# Altium schematic symbol library Amplifier_Operational.SchLib: 354 symbols (part 1 of 4)
Pins are listed as number, name and electrical type; pins without a type are passive.

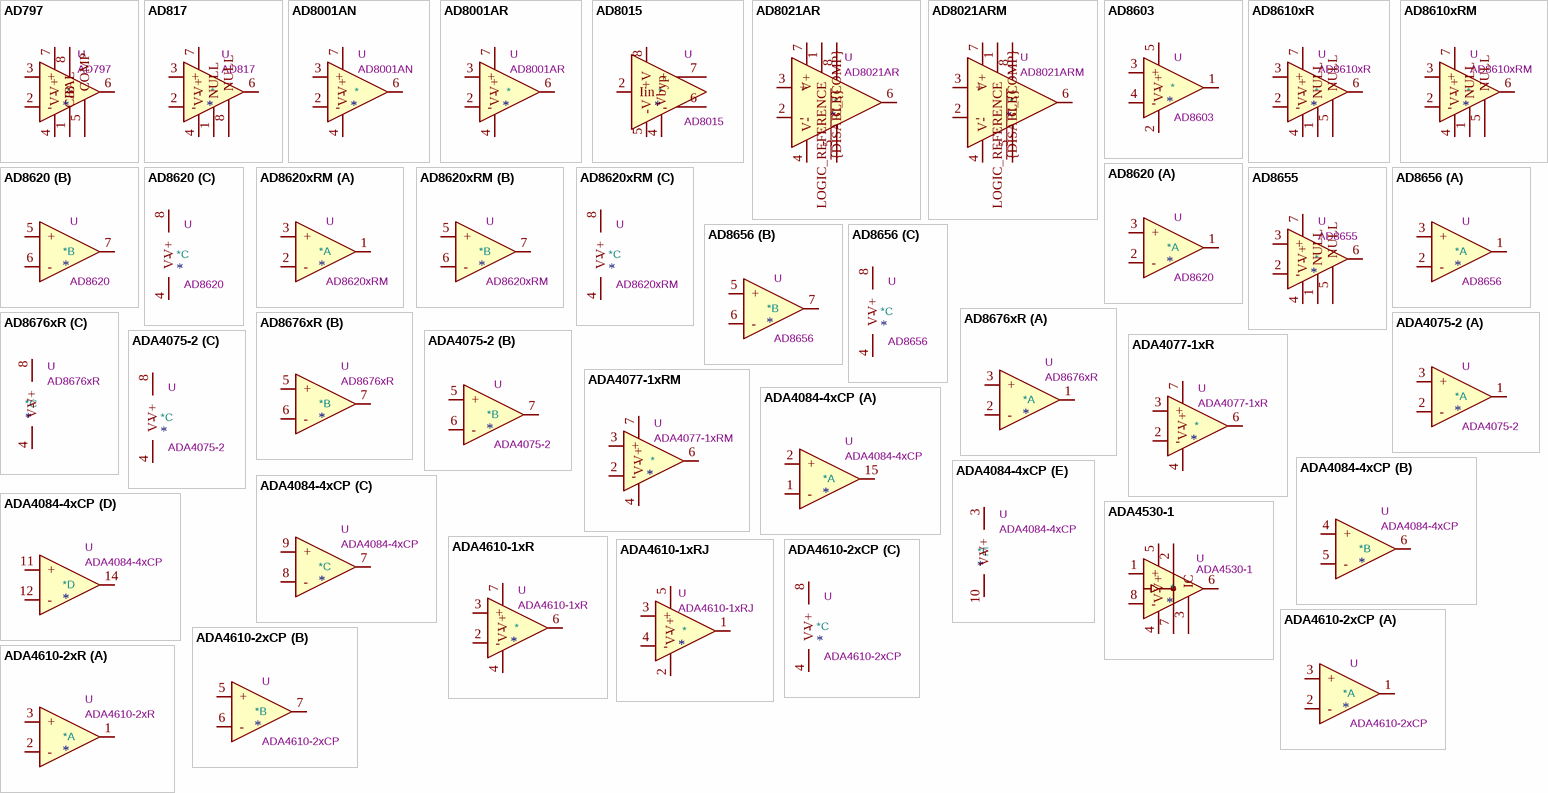
[diagram p0: symbols AD797 to ADA4610-2xR]

## AD797
designator *  value AD797  Reference: U
ki_keywords: single opamp; ki_description: Ultralow Distortion, Ultralow Noise Op Amp, DIP-8/SOIC-8; ki_fp_filters: DIP*W7.62mm* SOIC*3.9x4.9mm*P1.27mm* TO?5*; Datasheet: https://www.analog.com/media/en/technical-documentation/data-sheets/AD797.pdf
pins: 1 BAL, 2 -, 3 +, 4 V-, 5 COMP, 6, 7 V+, 8 C/B

## AD817
designator *  value AD817  Reference: U
ki_keywords: single opamp; ki_description: High Speed, Low Power Wide Supply Range Operational Amplifier, DIP-8/SOIC-8; ki_fp_filters: DIP?8?W7.62mm* SO?8?3.9x4.9mm*P1.27mm*; Datasheet: https://www.analog.com/media/en/technical-documentation/data-sheets/ad817.pdf
pins: 1 NULL, 2 -, 3 +, 4 V-, 5 NC hidden, 6, 7 V+, 8 NULL

## AD8001AN
designator *  value AD8001AN  Reference: U
ki_keywords: single opamp; ki_description: Current Feedback Amplifier, 800 MHz, 50mW, DIP-8; ki_fp_filters: DIP*W7.62mm*; Footprint: Package_DIP:DIP-8_W7.62mm; Datasheet: https://www.analog.com/media/en/technical-documentation/data-sheets/ad8001.pdf
pins: 1 NC hidden, 2 -, 3 +, 4 V-, 5 NC hidden, 6, 7 V+, 8 NC hidden

## AD8001AR
designator *  value AD8001AR  Reference: U
ki_keywords: single opamp; ki_description: Current Feedback Amplifier, 800 MHz, 50mW, SOIC-8; ki_fp_filters: SOIC*3.9x4.9mm*P1.27mm*; Footprint: Package_SO:SOIC-8_3.9x4.9mm_P1.27mm; Datasheet: https://www.analog.com/media/en/technical-documentation/data-sheets/ad8001.pdf
pins: 1 NC hidden, 2 -, 3 +, 4 V-, 5 NC hidden, 6, 7 V+, 8 NC hidden

## AD8015
designator *  value AD8015  Reference: U
ki_keywords: amplifier transimpedance differential optical receiver; ki_description: Wideband/Differential Output Transimpedance Amplifier, SOIC-8; ki_fp_filters: SOIC*3.9x4.9mm*P1.27mm*; Footprint: Package_SO:SOIC-8_3.9x4.9mm_P1.27mm; Datasheet: https://www.analog.com/media/en/technical-documentation/data-sheets/AD8015.pdf
pins: 1 NC hidden, 2 Iin, 3 NC hidden, 4 Vbyp, 5 -V, 6 -, 7 +, 8 +V

## AD8021AR
designator *  value AD8021AR  Reference: U
ki_keywords: Opamp; ki_description: Operational Amplifier, 4.5-24V single/dual supply, low noise, high speed, SOIC-8; ki_fp_filters: SOIC*3.9x4.9mm*P1.27mm*; Footprint: Package_SO:SOIC-8_3.9x4.9mm_P1.27mm; Datasheet: https://www.analog.com/media/en/technical-documentation/data-sheets/AD8021.pdf
pins: 1 LOGIC_REFERENCE, 2 -, 3 +, 4 V-, 5 C_{COMP}, 6, 7 V+, 8 ~{{DISABLE}}

## AD8021ARM
designator *  value AD8021ARM  Reference: U
ki_keywords: Opamp; ki_description: Operational Amplifier, 4.5-24V single/dual supply, low noise, high speed, MSOP-8; ki_fp_filters: MSOP*3x3mm*P0.65mm*; Footprint: Package_SO:MSOP-8_3x3mm_P0.65mm; Datasheet: https://www.analog.com/media/en/technical-documentation/data-sheets/AD8021.pdf
pins: 1 LOGIC_REFERENCE, 2 -, 3 +, 4 V-, 5 C_{COMP}, 6, 7 V+, 8 ~{{DISABLE}}

## AD8603
designator *  value AD8603  Reference: U
ki_keywords: single opamp; ki_description: Precision Micropower, Low Noise CMOS, Rail-to-Rail Input/Output Operational Amplifier, TSOT-23-5; ki_fp_filters: TSOT*23*; Footprint: Package_TO_SOT_SMD:TSOT-23-5; Datasheet: https://www.analog.com/media/en/technical-documentation/data-sheets/AD8603_8607_8609.pdf
pins: 1, 2 V-, 3 +, 4 -, 5 V+

## AD8610xR
designator *  value AD8610xR  Reference: U
ki_keywords: single opamp; ki_description: Single Precision, Very Low Noise, Low Input Bias Current, Wide Bandwidth JFET Operational Amplifiers, SOIC-8; ki_fp_filters: SOIC*3.9x4.9mm*P1.27mm*; Footprint: Package_SO:SOIC-8_3.9x4.9mm_P1.27mm; Datasheet: https://www.analog.com/media/en/technical-documentation/data-sheets/AD8610_8620.pdf
pins: 1 NULL, 2 -, 3 +, 4 V-, 5 NULL, 6, 7 V+, 8 NC hidden

## AD8610xRM
designator *  value AD8610xRM  Reference: U
ki_keywords: single opamp; ki_description: Single Precision, Very Low Noise, Low Input Bias Current, Wide Bandwidth JFET Operational Amplifiers, MSOP-8; ki_fp_filters: MSOP*3x3mm*P0.65mm*; Footprint: Package_SO:MSOP-8_3x3mm_P0.65mm; Datasheet: https://www.analog.com/media/en/technical-documentation/data-sheets/AD8610_8620.pdf
pins: 1 NULL, 2 -, 3 +, 4 V-, 5 NULL, 6, 7 V+, 8 NC hidden

## AD8620
designator *  value AD8620  Reference: U
ki_keywords: dual opamp; ki_description: Dual Precision, Very Low Noise, Low Input Bias Current, Wide Bandwidth JFET Operational Amplifiers, SOIC-8; ki_fp_filters: SOIC*3.9x4.9mm*P1.27mm*; Footprint: Package_SO:SOIC-8_3.9x4.9mm_P1.27mm; Datasheet: https://www.analog.com/media/en/technical-documentation/data-sheets/AD8610_8620.pdf
part A pins: 1, 2 -, 3 +
part B pins: 5 +, 6 -, 7
part C pins: 4 V-, 8 V+

## AD8620xRM
designator *  value AD8620xRM  Reference: U
ki_keywords: dual opamp; ki_description: Dual Precision, Very Low Noise, Low Input Bias Current, Wide Bandwidth JFET Operational Amplifiers, MSOP-8; ki_fp_filters: MSOP*3x3mm*P0.65mm*; Footprint: Package_SO:MSOP-8_3x3mm_P0.65mm; Datasheet: https://www.analog.com/media/en/technical-documentation/data-sheets/AD8610_8620.pdf
part A pins: 1, 2 -, 3 +
part B pins: 5 +, 6 -, 7
part C pins: 4 V-, 8 V+

## AD8655
designator *  value AD8655  Reference: U
ki_keywords: single opamp; ki_description: Single Low Noise, Precision CMOS Amplifier; ki_fp_filters: SOIC*3.9x4.9mm*P1.27mm* MSOP*3x3mm*P0.65mm*; Datasheet: https://www.analog.com/media/en/technical-documentation/data-sheets/ad8655_8656.pdf
pins: 1 NULL, 2 -, 3 +, 4 V-, 5 NULL, 6, 7 V+, 8 NC hidden

## AD8656
designator *  value AD8656  Reference: U
ki_keywords: dual opamp; ki_description: Dual Low Noise, Precision CMOS Amplifier; ki_fp_filters: SOIC*3.9x4.9mm*P1.27mm* MSOP*3x3mm*P0.65mm*; Datasheet: https://www.analog.com/media/en/technical-documentation/data-sheets/ad8655_8656.pdf
part A pins: 1, 2 -, 3 +
part B pins: 5 +, 6 -, 7
part C pins: 4 V-, 8 V+

## AD8676xR
designator *  value AD8676xR  Reference: U
ki_keywords: dual opamp precision high-voltage RRO RTR; ki_description: Dual operational amplifier, Ultra-precision, 36V, Rail-to-rail output, SOIC-8; ki_fp_filters: SOIC*3.9x4.9mm*P1.27mm*; Footprint: Package_SO:SOIC-8_3.9x4.9mm_P1.27mm; Datasheet: https://www.analog.com/media/en/technical-documentation/data-sheets/AD8676.pdf
part A pins: 1, 2 -, 3 +
part B pins: 5 +, 6 -, 7
part C pins: 4 V-, 8 V+

## ADA4075-2
designator *  value ADA4075-2  Reference: U
ki_keywords: dual low-power opamp; ki_description: Ultralow Noise Amplifier at Lower Power, SOIC-8/LFCSP-8; ki_fp_filters: SOIC*3.9x4.9mm*P1.27mm* DIP*W7.62mm* TO*99* OnSemi*Micro8* TSSOP*3x3mm*P0.65mm* TSSOP*4.4x3mm*P0.65mm* MSOP*3x3mm*P0.65mm* SSOP*3.9x4.9mm*P0.635mm* LFCSP*2x2mm*P0.5mm* *SIP* SOIC*5.3x6.2mm*P1.27mm*; Datasheet: https://www.analog.com/static/imported-files/data_sheets/ADA4075-2.pdf
part A pins: 1, 2 -, 3 +
part B pins: 5 +, 6 -, 7
part C pins: 4 V-, 8 V+

## ADA4077-1xR
designator *  value ADA4077-1xR  Reference: U
ki_keywords: single opamp; ki_description: 4MHz, 7nV/sqrtHz, Low Offset and Drift, High Precision Amplifier, SOIC-8; ki_fp_filters: SOIC*3.9x4.9mm*P1.27mm*; Footprint: Package_SO:SOIC-8_3.9x4.9mm_P1.27mm; Datasheet: https://www.analog.com/media/en/technical-documentation/data-sheets/ADA4077-1_4077-2_4077-4.pdf
pins: 1 NC hidden, 2 -, 3 +, 4 V-, 5 NC hidden, 6, 7 V+, 8 NC hidden

## ADA4077-1xRM
designator *  value ADA4077-1xRM  Reference: U
ki_keywords: single opamp; ki_description: 4MHz, 7nV/sqrtHz, Low Offset and Drift, High Precision Amplifier, MSOP-8; ki_fp_filters: MSOP*3x3mm*P0.65mm*; Footprint: Package_SO:MSOP-8_3x3mm_P0.65mm; Datasheet: https://www.analog.com/media/en/technical-documentation/data-sheets/ADA4077-1_4077-2_4077-4.pdf
pins: 1 NC hidden, 2 -, 3 +, 4 V-, 5 NC hidden, 6, 7 V+, 8 NC hidden

## ADA4084-4xCP
designator *  value ADA4084-4xCP  Reference: U
ki_keywords: quad opamp; ki_description: 30V Quad Low Noise, Rail-to-Rail Input/Output, Low Power Operational Amplifier, LFCSP-16; ki_fp_filters: LFCSP*4x4mm*P0.65mm*EP2.6x2.6mm*; Footprint: Package_CSP:LFCSP-16-1EP_4x4mm_P0.65mm_EP2.6x2.6mm; Datasheet: https://www.analog.com/media/en/technical-documentation/data-sheets/ADA4084-1_4084-2_4084-4.pdf
part A pins: 1 -, 2 +, 13 NIC hidden, 15, 16 NIC hidden
part B pins: 4 +, 5 -, 6
part C pins: 7, 8 -, 9 +
part D pins: 11 +, 12 -, 14
part E pins: 3 V+, 10 V-, 17 V- hidden

## ADA4530-1
designator *  value ADA4530-1  Reference: U
ki_keywords: single opamp; ki_description: Femtoampere Input Bias Current Electrometer Amplifier, SOIC-8; ki_fp_filters: SOIC*3.9x4.9mm*P1.27mm*; Footprint: Package_SO:SOIC-8_3.9x4.9mm_P1.27mm; Datasheet: https://www.analog.com/media/en/technical-documentation/data-sheets/ADA4530-1.pdf
pins: 1 +, 2, 3 IC, 4 V-, 5 V+, 6, 7, 8 -

## ADA4610-1xR
designator *  value ADA4610-1xR  Reference: U
ki_keywords: single opamp; ki_description: Low Noise, Precision, Rail-to-Rail Output, JFET Single Op Amp, SOIC-8; ki_fp_filters: SOIC*3.9x4.9mm*P1.27mm*; Footprint: Package_SO:SOIC-8_3.9x4.9mm_P1.27mm; Datasheet: https://www.analog.com/media/en/technical-documentation/data-sheets/ADA4610-1_4610-2_4610-4.pdf
pins: 1 NC hidden, 2 -, 3 +, 4 V-, 5 NC hidden, 6, 7 V+, 8 NC hidden

## ADA4610-1xRJ
designator *  value ADA4610-1xRJ  Reference: U
ki_keywords: single opamp; ki_description: Low Noise, Precision, Rail-to-Rail Output, JFET Single Op Amp, SOT-23-5; ki_fp_filters: SOT?23*; Footprint: Package_TO_SOT_SMD:SOT-23-5; Datasheet: https://www.analog.com/media/en/technical-documentation/data-sheets/ADA4610-1_4610-2_4610-4.pdf
pins: 1, 2 V-, 3 +, 4 -, 5 V+

## ADA4610-2xCP
designator *  value ADA4610-2xCP  Reference: U
ki_keywords: dual opamp; ki_description: Dual Low Noise, Precision, Rail-to-Rail Output, JFET Op Amp, LFCSP-8; ki_fp_filters: LFCSP*1EP*3x3mm*P0.5mm*; Footprint: Package_CSP:LFCSP-8-1EP_3x3mm_P0.5mm_EP1.6x2.34mm; Datasheet: https://www.analog.com/media/en/technical-documentation/data-sheets/ADA4610-1_4610-2_4610-4.pdf
part A pins: 1, 2 -, 3 +
part B pins: 5 +, 6 -, 7
part C pins: 4 V-, 8 V+, 9 V- hidden

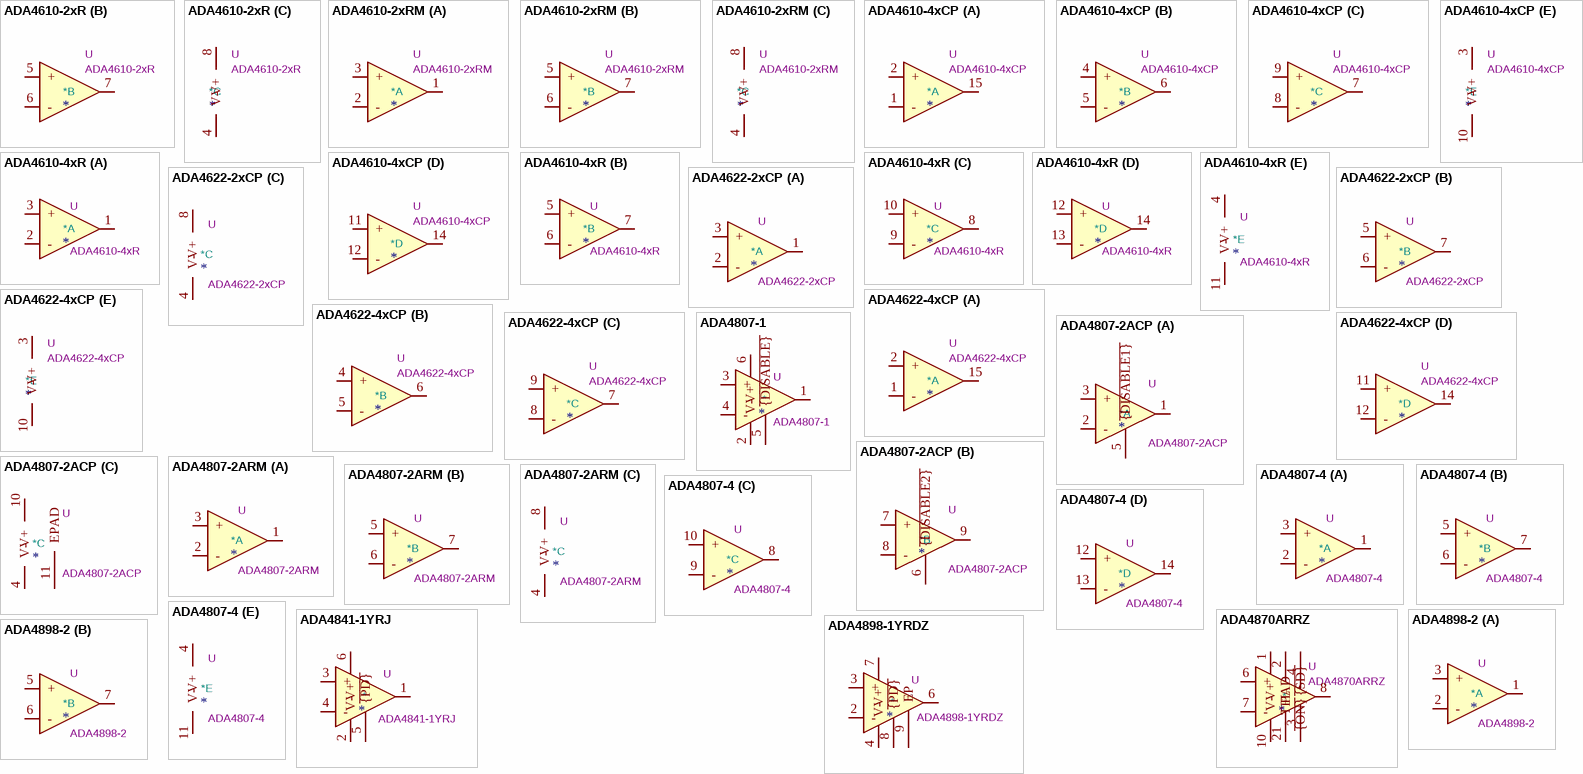
[diagram p1: symbols ADA4610-2xR to ADA4898-2]

## ADA4610-2xR
designator *  value ADA4610-2xR  Reference: U
ki_keywords: dual opamp; ki_description: Dual Low Noise, Precision, Rail-to-Rail Output, JFET Op Amp, SOIC-8; ki_fp_filters: SOIC*3.9x4.9mm*P1.27mm*; Footprint: Package_SO:SOIC-8_3.9x4.9mm_P1.27mm; Datasheet: https://www.analog.com/media/en/technical-documentation/data-sheets/ADA4610-1_4610-2_4610-4.pdf
part A pins: 1, 2 -, 3 +
part B pins: 5 +, 6 -, 7
part C pins: 4 V-, 8 V+

## ADA4610-2xRM
designator *  value ADA4610-2xRM  Reference: U
ki_keywords: dual opamp; ki_description: Dual Low Noise, Precision, Rail-to-Rail Output, JFET Op Amp, MSOP-8; ki_fp_filters: MSOP*3x3mm*P0.65mm*; Footprint: Package_SO:MSOP-8_3x3mm_P0.65mm; Datasheet: https://www.analog.com/media/en/technical-documentation/data-sheets/ADA4610-1_4610-2_4610-4.pdf
part A pins: 1, 2 -, 3 +
part B pins: 5 +, 6 -, 7
part C pins: 4 V-, 8 V+

## ADA4610-4xCP
designator *  value ADA4610-4xCP  Reference: U
ki_keywords: quad opamp; ki_description: Quad Low Noise, Precision, Rail-to-Rail Output, JFET Op Amp, LFCSP-16; ki_fp_filters: LFCSP*1EP*4x4mm*P0.65mm*; Footprint: Package_CSP:LFCSP-16-1EP_4x4mm_P0.65mm_EP2.1x2.1mm; Datasheet: https://www.analog.com/media/en/technical-documentation/data-sheets/ADA4610-1_4610-2_4610-4.pdf
part A pins: 1 -, 2 +, 13 NIC hidden, 15, 16 NIC hidden
part B pins: 4 +, 5 -, 6
part C pins: 7, 8 -, 9 +
part D pins: 11 +, 12 -, 14
part E pins: 3 V+, 10 V-, 17 V- hidden

## ADA4610-4xR
designator *  value ADA4610-4xR  Reference: U
ki_keywords: quad opamp low-power; ki_description: Quad Low Noise, Precision, Rail-to-Rail Output, JFET Single Op Amp, SOIC-14; ki_fp_filters: SOIC*3.9x8.7mm*P1.27mm*; Footprint: Package_SO:SOIC-14_3.9x8.7mm_P1.27mm; Datasheet: https://www.analog.com/media/en/technical-documentation/data-sheets/ADA4610-1_4610-2_4610-4.pdf
part A pins: 1, 2 -, 3 +
part B pins: 5 +, 6 -, 7
part C pins: 8, 9 -, 10 +
part D pins: 12 +, 13 -, 14
part E pins: 4 V+, 11 V-

## ADA4622-2xCP
designator *  value ADA4622-2xCP  Reference: U
ki_keywords: dual opamp; ki_description: Analog Devices Dual 30V, 8MHz, Low Bias Current, Single Supply, RRO, Precision Op Amp, LFCSP-8; ki_fp_filters: *LFCSP*1EP*3x3mm*P0.5mm*; Footprint: Package_CSP:LFCSP-8-1EP_3x3mm_P0.5mm_EP1.45x1.74mm; Datasheet: https://www.analog.com/media/en/technical-documentation/data-sheets/ada4622-1-4622-2-4622-4.pdf
part A pins: 1, 2 -, 3 +
part B pins: 5 +, 6 -, 7
part C pins: 4 V-, 8 V+, 9 V+ hidden

## ADA4622-4xCP
designator *  value ADA4622-4xCP  Reference: U
ki_keywords: quad opamp; ki_description: Analog Devices Quad 30V, 8MHz, Low Bias Current, Single Supply, RRO, Precision Op Amp, LFCSP-16; ki_fp_filters: *LFCSP*1EP*4x4mm*P0.65mm*; Footprint: Package_CSP:Analog_LFCSP-16-1EP_4x4mm_P0.65mm_EP2.35x2.35mm; Datasheet: https://www.analog.com/media/en/technical-documentation/data-sheets/ada4622-1-4622-2-4622-4.pdf
part A pins: 1 -, 2 +, 15
part B pins: 4 +, 5 -, 6
part C pins: 7, 8 -, 9 +
part D pins: 11 +, 12 -, 14
part E pins: 3 V+, 10 V-, 13 NIC hidden, 16 NIC hidden, 17 V+ hidden

## ADA4807-1
designator *  value ADA4807-1  Reference: U
ki_keywords: single opamp; ki_description: Single Rail-to-Rail Input/Output Amplifiers, with disable, SC-70-6/SOT-23-6; ki_fp_filters: *SC*70* SOT?23*; Datasheet: https://www.analog.com/media/en/technical-documentation/data-sheets/ADA4807-1_4807-2_4807-4.pdf
pins: 1, 2 V-, 3 +, 4 -, 5 ~{{DISABLE}}, 6 V+

## ADA4807-2ACP
designator *  value ADA4807-2ACP  Reference: U
ki_keywords: dual opamp; ki_description: Dual Rail-to-Rail Input/Output Amplifiers, with disable, SC-70-6/SOT-23-6; ki_fp_filters: *LFCSP*1EP*3x3mm*P0.5mm*; Footprint: Package_CSP:LFCSP-WD-10-1EP_3x3mm_P0.5mm_EP1.64x2.38mm; Datasheet: https://www.analog.com/media/en/technical-documentation/data-sheets/ADA4807-1_4807-2_4807-4.pdf
part A pins: 1, 2 -, 3 +, 5 ~{{DISABLE1}}
part B pins: 6 ~{{DISABLE2}}, 7 +, 8 -, 9
part C pins: 4 V-, 10 V+, 11 EPAD

## ADA4807-2ARM
designator *  value ADA4807-2ARM  Reference: U
ki_keywords: dual opamp; ki_description: Dual Rail-to-Rail Input/Output Amplifiers, MSOP-8; ki_fp_filters: SOIC*3.9x4.9mm*P1.27mm* DIP*W7.62mm* TO*99* OnSemi*Micro8* TSSOP*3x3mm*P0.65mm* TSSOP*4.4x3mm*P0.65mm* MSOP*3x3mm*P0.65mm* SSOP*3.9x4.9mm*P0.635mm* LFCSP*2x2mm*P0.5mm* *SIP* SOIC*5.3x6.2mm*P1.27mm*; Datasheet: https://www.analog.com/media/en/technical-documentation/data-sheets/ADA4807-1_4807-2_4807-4.pdf
part A pins: 1, 2 -, 3 +
part B pins: 5 +, 6 -, 7
part C pins: 4 V-, 8 V+

## ADA4807-4
designator *  value ADA4807-4  Reference: U
ki_keywords: quad opamp; ki_description: Quad Rail-to-Rail Input/Output Amplifiers, TSSOP-14; ki_fp_filters: SOIC*3.9x8.7mm*P1.27mm* DIP*W7.62mm* TSSOP*4.4x5mm*P0.65mm* SSOP*5.3x6.2mm*P0.65mm* MSOP*3x3mm*P0.5mm*; Datasheet: https://www.analog.com/media/en/technical-documentation/data-sheets/ADA4807-1_4807-2_4807-4.pdf
part A pins: 1, 2 -, 3 +
part B pins: 5 +, 6 -, 7
part C pins: 8, 9 -, 10 +
part D pins: 12 +, 13 -, 14
part E pins: 4 V+, 11 V-

## ADA4841-1YRJ
designator *  value ADA4841-1YRJ  Reference: U
ki_keywords: single opamp low-noise rail-to-rail; ki_description: Low Power, Low Noise and Distorsion, Rail-to-Rail Output Amplifier, SOT-23-6; ki_fp_filters: SOT?23*; Footprint: Package_TO_SOT_SMD:SOT-23-6; Datasheet: https://www.analog.com/media/en/technical-documentation/data-sheets/ADA4841-1_4841-2.pdf
pins: 1, 2 V-, 3 +, 4 -, 5 ~{{PD}}, 6 V+

## ADA4870ARRZ
designator *  value ADA4870ARRZ  Reference: U
ki_keywords: single opamp; ki_description: High Speed, High Voltage, 1A Output Drive Amplifier, PSOP-20; ki_fp_filters: HSOP*1EP*11.0x15.9mm*P1.27mm*SlugDown*; Footprint: Package_SO:HSOP-20-1EP_11.0x15.9mm_P1.27mm_SlugDown_ThermalVias; Datasheet: www.analog.com/media/en/technical-documentation/data-sheets/ADA4870.pdf
pins: 1 V+, 2 TFL, 3 ~{{SD}}, 4 ~{{ON}}, 5 NC hidden, 6 +, 7 -, 8, 9 NC hidden, 10 V-, 11 V- hidden, 12 V- hidden, 13 V- hidden, 14 hidden, 15 hidden, 16 hidden, 17 hidden, 18 V+ hidden, 19 V+ hidden, 20 V+ hidden, 21 PAD

## ADA4898-1YRDZ
designator *  value ADA4898-1YRDZ  Reference: U
ki_keywords: opamp single low noise low distortion; ki_description: High Voltage, Low Noise, Low Distortion, Unity-Gain Stable, High Speed Op Amp, SOIC-8; ki_fp_filters: SOIC*1EP*3.9x4.9mm*P1.27mm*; Footprint: Package_SO:SOIC-8-1EP_3.9x4.9mm_P1.27mm_EP2.29x3mm; Datasheet: https://www.analog.com/media/en/technical-documentation/data-sheets/ada4898-1_4898-2.pdf
pins: 2 -, 3 +, 4 V-, 6, 7 V+, 8 ~{{PD}}, 9 EP

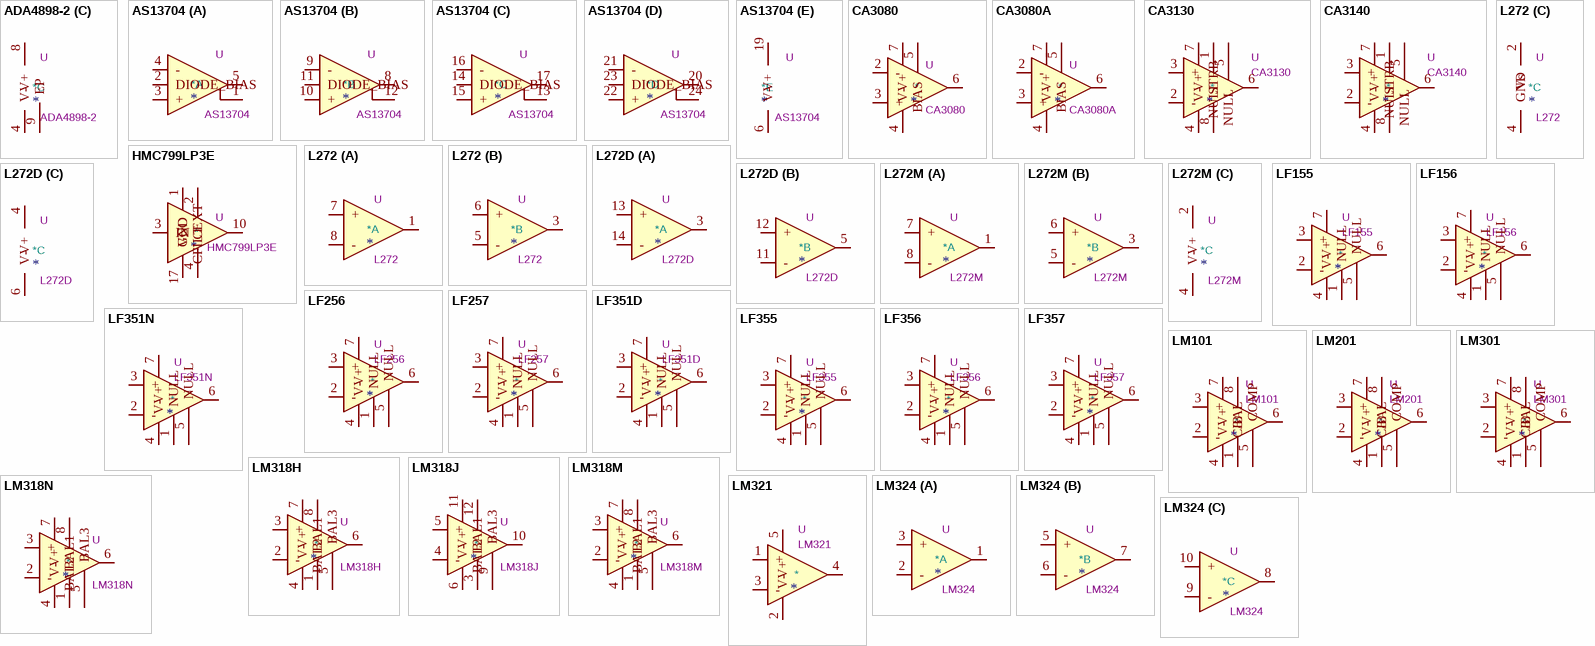
[diagram p2: symbols ADA4898-2 to LM324]

## ADA4898-2
designator *  value ADA4898-2  Reference: U
ki_keywords: opamp dual low noise low distortion; ki_description: Dual High Voltage, Low Noise, Low Distortion, Unity-Gain Stable, High Speed Op Amp, SOIC-8-1EP; ki_fp_filters: SOIC*1EP*3.9x4.9mm*P1.27mm*; Footprint: Package_SO:SOIC-8-1EP_3.9x4.9mm_P1.27mm_EP2.41x3.81mm; Datasheet: https://www.analog.com/media/en/technical-documentation/data-sheets/ada4898-1_4898-2.pdf
part A pins: 1, 2 -, 3 +
part B pins: 5 +, 6 -, 7
part C pins: 4 V-, 8 V+, 9 EP

## AS13704
designator *  value AS13704  Reference: U
ki_keywords: operational transconductance amplifier OTA; ki_description: Quad Operational Transconductance Amplifiers (OTA), with linearizing diodes, SSOP24; ki_fp_filters: SSOP*3.9x8.7mm*P0.635mm*; Footprint: Package_SO:SSOP-24_3.9x8.7mm_P0.635mm; Datasheet: http://www.alfarzpp.lv/eng/sc/AS13704.pdf
part A pins: 1, 2 DIODE_BIAS, 3 +, 4 -, 5, 7 NC hidden, 18 NC hidden
part B pins: 8, 9 -, 10 +, 11 DIODE_BIAS, 12
part C pins: 13, 14 DIODE_BIAS, 15 +, 16 -, 17
part D pins: 20, 21 -, 22 +, 23 DIODE_BIAS, 24
part E pins: 6 V-, 19 V+

## CA3080
designator *  value CA3080  Reference: U
ki_keywords: operational transconductance amplifier ota; ki_description: 2MHz, Operational Transconductance Amplifier (OTA), gM spread 2:1, DIP-8/SOIC-8; ki_fp_filters: DIP*W7.62mm* SOIC*3.9x4.9mm*P1.27mm*; Datasheet: http://www.intersil.com/content/dam/Intersil/documents/ca30/ca3080-a.pdf
pins: 1 NC hidden, 2 -, 3 +, 4 V-, 5 BIAS, 6, 7 V+, 8 NC hidden

## CA3080A
designator *  value CA3080A  Reference: U
ki_keywords: operational transconductance amplifier ota; ki_description: 2MHz, Operational Transconductance Amplifier (OTA), gM spread 1.6:1, DIP-8/SOIC-8; ki_fp_filters: DIP*W7.62mm* SOIC*3.9x4.9mm*P1.27mm*; Datasheet: http://www.intersil.com/content/dam/Intersil/documents/ca30/ca3080-a.pdf
pins: 1 NC hidden, 2 -, 3 +, 4 V-, 5 BIAS, 6, 7 V+, 8 NC hidden

## CA3130
designator *  value CA3130  Reference: U
ki_keywords: single opamp; ki_description: 15MHz, BiMOS Operational Amplifier with MOSFET Input/CMOS Output, DIP-8/SOIC-8; ki_fp_filters: DIP*W7.62mm* SOIC*3.9x4.9mm*P1.27mm*; Datasheet: http://www.intersil.com/content/dam/intersil/documents/ca31/ca3130-a.pdf
pins: 1 NULL, 2 -, 3 +, 4 V-, 5 NULL, 6, 7 V+, 8 STRB

## CA3140
designator *  value CA3140  Reference: U
ki_keywords: single opamp; ki_description: 4.5MHz, BiMOS Operational Amplifier with MOSFET Input/Bipolar Output, DIP-8/SOIC-8; ki_fp_filters: DIP*W7.62mm* SOIC*3.9x4.9mm*P1.27mm*; Datasheet: http://www.intersil.com/content/dam/intersil/documents/ca31/ca3140-a.pdf
pins: 1 NULL, 2 -, 3 +, 4 V-, 5 NULL, 6, 7 V+, 8 STRB

## HMC799LP3E
designator *  value HMC799LP3E  Reference: U
ki_keywords: amplifier transimpedance; ki_description: DC - 700 MHz, 10 kOhm Transimpedance amplifier, QFN-16; ki_fp_filters: QFN*1EP*3x3mm*P0.5mm*; Footprint: Package_DFN_QFN:QFN-16-1EP_3x3mm_P0.5mm_EP1.75x1.75mm; Datasheet: https://www.analog.com/media/en/technical-documentation/data-sheets/hmc799.pdf
pins: 1 VCC, 2 CFILT, 3 IN, 4 CEXT, 5 NC hidden, 6 NC hidden, 7 NC hidden, 8 NC hidden, 9 NC hidden, 10, 11 NC hidden, 12 VCC hidden, 13 NC hidden, 14 VCC hidden, 15 NC hidden, 16 NC hidden, 17 GND

## L272
designator *  value L272  Reference: U
ki_keywords: dual power opamp; ki_description: Dual Power Operation Amplifier, DIP-16; ki_fp_filters: *DIP*W7.62mm*; Footprint: Package_DIP:DIP-16_W7.62mm; Datasheet: www.st.com/resource/en/datasheet/l272.pdf
part A pins: 1, 7 +, 8 -
part B pins: 3, 5 -, 6 +
part C pins: 2 Vs, 4 GND, 9 GND hidden, 10 GND hidden, 11 GND hidden, 12 GND hidden, 13 GND hidden, 14 GND hidden, 15 GND hidden, 16 GND hidden

## L272D
designator *  value L272D  Reference: U
ki_keywords: dual power opamp; ki_description: Dual Power Operation Amplifier, SOIC-16; ki_fp_filters: *SOIC*3.9x9.9mm*P1.27mm*; Footprint: Package_SO:SOIC-16_3.9x9.9mm_P1.27mm; Datasheet: www.st.com/resource/en/datasheet/l272.pdf
part A pins: 1 NC hidden, 2 NC hidden, 3, 7 NC hidden, 8 NC hidden, 13 +, 14 -
part B pins: 5, 9 NC hidden, 10 NC hidden, 11 -, 12 +, 15 NC hidden, 16 NC hidden
part C pins: 4 V+, 6 V-

## L272M
designator *  value L272M  Reference: U
ki_keywords: dual power opamp; ki_description: Dual Power Operation Amplifier, DIP-8; ki_fp_filters: *DIP*W7.62mm*; Footprint: Package_DIP:DIP-8_W7.62mm_LongPads; Datasheet: www.st.com/resource/en/datasheet/l272.pdf
part A pins: 1, 7 +, 8 -
part B pins: 3, 5 -, 6 +
part C pins: 2 V+, 4 V-

## LF155
designator *  value LF155  Reference: U
ki_keywords: single jfet opamp; ki_description: Single JFET Input Operational Amplifiers, DIP-8/SOIC-8; ki_fp_filters: SOIC*3.9x4.9mm*P1.27mm* DIP*W7.62mm* TSSOP*3x3mm*P0.65mm*; Datasheet: http://www.ti.com/lit/ds/symlink/lf357.pdf
pins: 1 NULL, 2 -, 3 +, 4 V-, 5 NULL, 6, 7 V+, 8 NC hidden

## LF156
designator *  value LF156  Reference: U
ki_keywords: single jfet opamp; ki_description: Single JFET Input Operational Amplifiers, DIP-8/SOIC-8; ki_fp_filters: SOIC*3.9x4.9mm*P1.27mm* DIP*W7.62mm* TSSOP*3x3mm*P0.65mm*; Datasheet: http://www.ti.com/lit/ds/symlink/lf357.pdf
pins: 1 NULL, 2 -, 3 +, 4 V-, 5 NULL, 6, 7 V+, 8 NC hidden

## LF256
designator *  value LF256  Reference: U
ki_keywords: single jfet opamp; ki_description: Single JFET Input Operational Amplifiers, DIP-8/SOIC-8; ki_fp_filters: SOIC*3.9x4.9mm*P1.27mm* DIP*W7.62mm* TSSOP*3x3mm*P0.65mm*; Datasheet: http://www.ti.com/lit/ds/symlink/lf357.pdf
pins: 1 NULL, 2 -, 3 +, 4 V-, 5 NULL, 6, 7 V+, 8 NC hidden

## LF257
designator *  value LF257  Reference: U
ki_keywords: single jfet opamp; ki_description: Single JFET Input Operational Amplifiers, DIP-8/SOIC-8; ki_fp_filters: SOIC*3.9x4.9mm*P1.27mm* DIP*W7.62mm* TSSOP*3x3mm*P0.65mm*; Datasheet: http://www.ti.com/lit/ds/symlink/lf357.pdf
pins: 1 NULL, 2 -, 3 +, 4 V-, 5 NULL, 6, 7 V+, 8 NC hidden

## LF351D
designator *  value LF351D  Reference: U
ki_keywords: Single OpAmp JFET; ki_description: Wide bandwidth single JFET operational amplifier, SOIC-8; ki_fp_filters: SOIC*3.9x4.9mm*P1.27mm*; Datasheet: https://www.st.com/resource/en/datasheet/lf351.pdf
pins: 1 NULL, 2 -, 3 +, 4 V-, 5 NULL, 6, 7 V+, 8 NC hidden

## LF351N
designator *  value LF351N  Reference: U
ki_keywords: Single OpAmp JFET; ki_description: Wide bandwidth single JFET operational amplifier, DIP-8; ki_fp_filters: DIP*W7.62mm*; Datasheet: https://www.st.com/resource/en/datasheet/lf351.pdf
pins: 1 NULL, 2 -, 3 +, 4 V-, 5 NULL, 6, 7 V+, 8 NC hidden

## LF355
designator *  value LF355  Reference: U
ki_keywords: single jfet opamp; ki_description: Single JFET Input Operational Amplifiers, DIP-8/SOIC-8; ki_fp_filters: SOIC*3.9x4.9mm*P1.27mm* DIP*W7.62mm* TSSOP*3x3mm*P0.65mm*; Datasheet: http://www.ti.com/lit/ds/symlink/lf357.pdf
pins: 1 NULL, 2 -, 3 +, 4 V-, 5 NULL, 6, 7 V+, 8 NC hidden

## LF356
designator *  value LF356  Reference: U
ki_keywords: single jfet opamp; ki_description: Single JFET Input Operational Amplifiers, DIP-8/SOIC-8; ki_fp_filters: SOIC*3.9x4.9mm*P1.27mm* DIP*W7.62mm* TSSOP*3x3mm*P0.65mm*; Datasheet: http://www.ti.com/lit/ds/symlink/lf357.pdf
pins: 1 NULL, 2 -, 3 +, 4 V-, 5 NULL, 6, 7 V+, 8 NC hidden

## LF357
designator *  value LF357  Reference: U
ki_keywords: single jfet opamp; ki_description: Single JFET Input Operational Amplifiers, DIP-8/SOIC-8; ki_fp_filters: SOIC*3.9x4.9mm*P1.27mm* DIP*W7.62mm* TSSOP*3x3mm*P0.65mm*; Datasheet: http://www.ti.com/lit/ds/symlink/lf357.pdf
pins: 1 NULL, 2 -, 3 +, 4 V-, 5 NULL, 6, 7 V+, 8 NC hidden

## LM101
designator *  value LM101  Reference: U
ki_keywords: single opamp; ki_description: Operational Amplifier, DIP-8/TO-99-8; ki_fp_filters: DIP*W7.62mm* SOIC*3.9x4.9mm*P1.27mm* TO?5*; Datasheet: http://www.ti.com/lit/ds/symlink/lm101a-n.pdf
pins: 1 BAL, 2 -, 3 +, 4 V-, 5 COMP, 6, 7 V+, 8 C/B

## LM201
designator *  value LM201  Reference: U
ki_keywords: single opamp; ki_description: Operational Amplifier, DIP-8/TO-99-8; ki_fp_filters: DIP*W7.62mm* SOIC*3.9x4.9mm*P1.27mm* TO?5*; Datasheet: http://www.ti.com/lit/ds/symlink/lm101a-n.pdf
pins: 1 BAL, 2 -, 3 +, 4 V-, 5 COMP, 6, 7 V+, 8 C/B

## LM301
designator *  value LM301  Reference: U
ki_keywords: single opamp; ki_description: Operational Amplifier, DIP-8/TO-99-8; ki_fp_filters: DIP*W7.62mm* SOIC*3.9x4.9mm*P1.27mm* TO?5*; Datasheet: http://www.ti.com/lit/ds/symlink/lm101a-n.pdf
pins: 1 BAL, 2 -, 3 +, 4 V-, 5 COMP, 6, 7 V+, 8 C/B

## LM318H
designator *  value LM318H  Reference: U
ki_keywords: single opamp; ki_description: Operational Amplifier, TO-99-8; ki_fp_filters: SOIC*3.9x4.9mm*P1.27mm* DIP*W7.62mm* TO*99*; Datasheet: http://www.ti.com/lit/ds/symlink/lm318-n.pdf
pins: 1 BAL1, 2 -, 3 +, 4 V-, 5 BAL3, 6, 7 V+, 8 BAL2

## LM318J
designator *  value LM318J  Reference: U
ki_keywords: single opamp; ki_description: Operational Amplifier, DIP-14; ki_fp_filters: DIP*W7.62mm*; Footprint: Package_DIP:DIP-14_W7.62mm; Datasheet: http://www.ti.com/lit/ds/symlink/lm318-n.pdf
pins: 1 NC hidden, 2 NC hidden, 3 BAL1, 4 -, 5 +, 6 V-, 7 NC hidden, 8 NC hidden, 9 BAL3, 10, 11 V+, 12 BAL2, 13 NC hidden, 14 NC hidden

## LM318M
designator *  value LM318M  Reference: U
ki_keywords: single opamp; ki_description: Operational Amplifier, SOIC-8; ki_fp_filters: SOIC*3.9x4.9mm*P1.27mm* DIP*W7.62mm* TO*99*; Datasheet: http://www.ti.com/lit/ds/symlink/lm318-n.pdf
pins: 1 BAL1, 2 -, 3 +, 4 V-, 5 BAL3, 6, 7 V+, 8 BAL2

## LM318N
designator *  value LM318N  Reference: U
ki_keywords: single opamp; ki_description: Operational Amplifier, DIP-8; ki_fp_filters: SOIC*3.9x4.9mm*P1.27mm* DIP*W7.62mm* TO*99*; Datasheet: http://www.ti.com/lit/ds/symlink/lm318-n.pdf
pins: 1 BAL1, 2 -, 3 +, 4 V-, 5 BAL3, 6, 7 V+, 8 BAL2

## LM321
designator *  value LM321  Reference: U
ki_keywords: single opamp; ki_description: Low Power Single Operational Amplifier, SOT-23-5; ki_fp_filters: SOT?23*; Footprint: Package_TO_SOT_SMD:SOT-23-5; Datasheet: http://www.ti.com/lit/ds/symlink/lm321.pdf
pins: 1 +, 2 V-, 3 -, 4, 5 V+

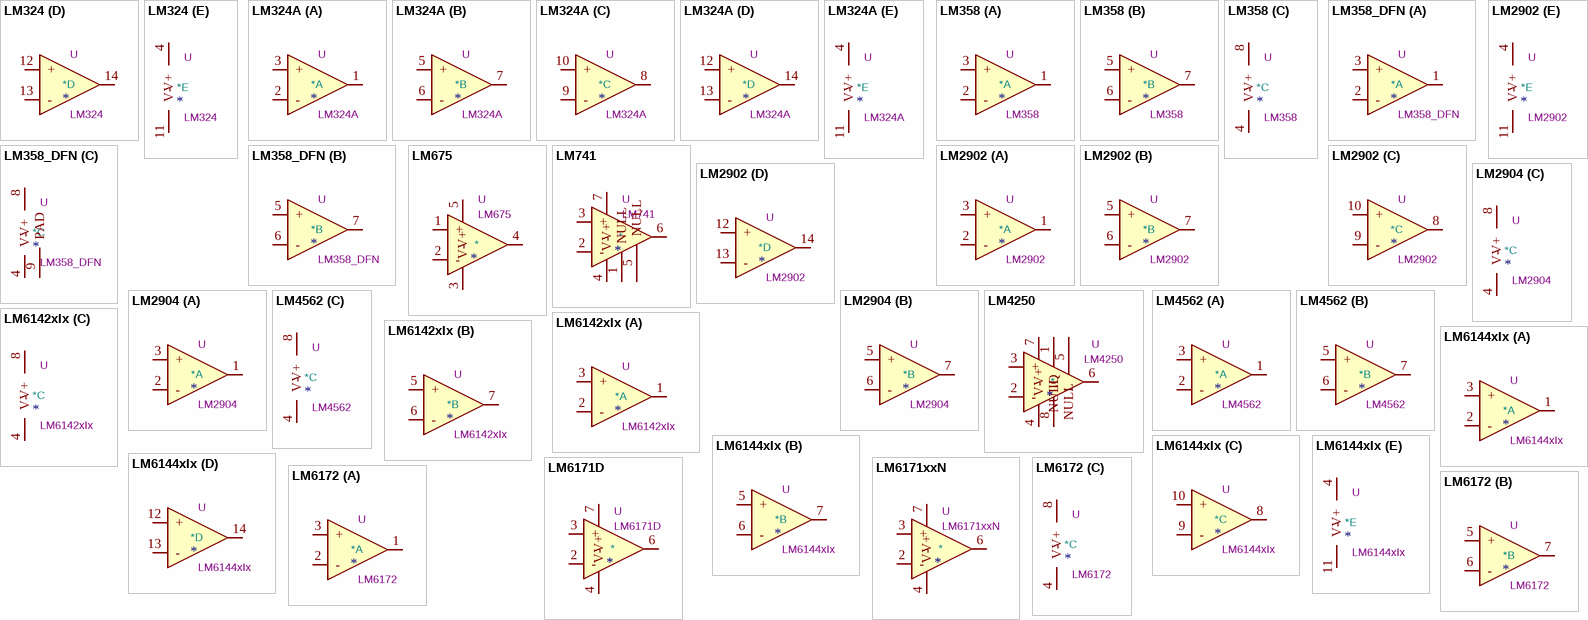
[diagram p3: symbols LM324 to LM6172]

## LM324
designator *  value LM324  Reference: U
ki_keywords: quad opamp; ki_description: Low-Power, Quad-Operational Amplifiers, DIP-14/SOIC-14/SSOP-14; ki_fp_filters: SOIC*3.9x8.7mm*P1.27mm* DIP*W7.62mm* TSSOP*4.4x5mm*P0.65mm* SSOP*5.3x6.2mm*P0.65mm* MSOP*3x3mm*P0.5mm*; Datasheet: http://www.ti.com/lit/ds/symlink/lm2902-n.pdf
part A pins: 1, 2 -, 3 +
part B pins: 5 +, 6 -, 7
part C pins: 8, 9 -, 10 +
part D pins: 12 +, 13 -, 14
part E pins: 4 V+, 11 V-

## LM324A
designator *  value LM324A  Reference: U
ki_keywords: quad opamp; ki_description: Low-Power, Quad-Operational Amplifiers, DIP-14/SOIC-14/SSOP-14; ki_fp_filters: SOIC*3.9x8.7mm*P1.27mm* DIP*W7.62mm* TSSOP*4.4x5mm*P0.65mm* SSOP*5.3x6.2mm*P0.65mm* MSOP*3x3mm*P0.5mm*; Datasheet: http://www.ti.com/lit/ds/symlink/lm2902-n.pdf
part A pins: 1, 2 -, 3 +
part B pins: 5 +, 6 -, 7
part C pins: 8, 9 -, 10 +
part D pins: 12 +, 13 -, 14
part E pins: 4 V+, 11 V-

## LM358
designator *  value LM358  Reference: U
ki_keywords: dual opamp; ki_description: Low-Power, Dual Operational Amplifiers, DIP-8/SOIC-8/TO-99-8; ki_fp_filters: SOIC*3.9x4.9mm*P1.27mm* DIP*W7.62mm* TO*99* OnSemi*Micro8* TSSOP*3x3mm*P0.65mm* TSSOP*4.4x3mm*P0.65mm* MSOP*3x3mm*P0.65mm* SSOP*3.9x4.9mm*P0.635mm* LFCSP*2x2mm*P0.5mm* *SIP* SOIC*5.3x6.2mm*P1.27mm*; Datasheet: http://www.ti.com/lit/ds/symlink/lm2904-n.pdf
part A pins: 1, 2 -, 3 +
part B pins: 5 +, 6 -, 7
part C pins: 4 V-, 8 V+

## LM358_DFN
designator *  value LM358_DFN  Reference: U
ki_keywords: dual opamp; ki_description: Low-Power, Dual Operational Amplifiers, DFN-8; ki_fp_filters: DFN*2x2mm*P0.5mm*; Footprint: Package_DFN_QFN:DFN-8-1EP_2x2mm_P0.5mm_EP1.05x1.75mm; Datasheet: www.st.com/resource/en/datasheet/lm358.pdf
part A pins: 1, 2 -, 3 +
part B pins: 5 +, 6 -, 7
part C pins: 4 V-, 8 V+, 9 PAD

## LM675
designator *  value LM675  Reference: U
ki_keywords: single opamp; ki_description: Power Operational Amplifier, TO-220-5; ki_fp_filters: TO?220?5*StaggerOdd*; Footprint: Package_TO_SOT_THT:TO-220-5_P3.4x3.7mm_StaggerOdd_Lead3.8mm_Vertical; Datasheet: http://www.ti.com/lit/ds/symlink/lm675.pdf
pins: 1 +, 2 -, 3 V-, 4, 5 V+

## LM741
designator *  value LM741  Reference: U
ki_keywords: single opamp; ki_description: Operational Amplifier, DIP-8/TO-99-8; ki_fp_filters: SOIC*3.9x4.9mm*P1.27mm* DIP*W7.62mm* TSSOP*3x3mm*P0.65mm*; Datasheet: http://www.ti.com/lit/ds/symlink/lm741.pdf
pins: 1 NULL, 2 -, 3 +, 4 V-, 5 NULL, 6, 7 V+, 8 NC hidden

## LM2902
designator *  value LM2902  Reference: U
ki_keywords: quad opamp; ki_description: Low-Power, Quad-Operational Amplifiers, DIP-14/SOIC-14/SSOP-14; ki_fp_filters: SOIC*3.9x8.7mm*P1.27mm* DIP*W7.62mm* TSSOP*4.4x5mm*P0.65mm* SSOP*5.3x6.2mm*P0.65mm* MSOP*3x3mm*P0.5mm*; Datasheet: http://www.ti.com/lit/ds/symlink/lm2902-n.pdf
part A pins: 1, 2 -, 3 +
part B pins: 5 +, 6 -, 7
part C pins: 8, 9 -, 10 +
part D pins: 12 +, 13 -, 14
part E pins: 4 V+, 11 V-

## LM2904
designator *  value LM2904  Reference: U
ki_keywords: dual opamp; ki_description: Dual Operational Amplifiers, DIP-8/SOIC-8/TSSOP-8/VSSOP-8; ki_fp_filters: SOIC*3.9x4.9mm*P1.27mm* DIP*W7.62mm* TO*99* OnSemi*Micro8* TSSOP*3x3mm*P0.65mm* TSSOP*4.4x3mm*P0.65mm* MSOP*3x3mm*P0.65mm* SSOP*3.9x4.9mm*P0.635mm* LFCSP*2x2mm*P0.5mm* *SIP* SOIC*5.3x6.2mm*P1.27mm*; Datasheet: http://www.ti.com/lit/ds/symlink/lm358.pdf
part A pins: 1, 2 -, 3 +
part B pins: 5 +, 6 -, 7
part C pins: 4 V-, 8 V+

## LM4250
designator *  value LM4250  Reference: U
ki_keywords: Programmable opamp; ki_description: Programmable Operational Amplifier, DIP-8/SOIC-8; ki_fp_filters: DIP*W7.62mm* SOIC*3.9x4.9mm*P1.27mm* TO?5*; Datasheet: http://www.ti.com/lit/ds/symlink/lm4250.pdf
pins: 1 NULL, 2 -, 3 +, 4 V-, 5 NULL, 6, 7 V+, 8 IQ

## LM4562
designator *  value LM4562  Reference: U
ki_keywords: dual opamp; ki_description: Dual High-Performance, High-Fidelity Audio Operational Amplifier, DIP-8/SOIC-8/TO-99-8; ki_fp_filters: SOIC*3.9x4.9mm*P1.27mm* DIP*W7.62mm* TO*99* OnSemi*Micro8* TSSOP*3x3mm*P0.65mm* TSSOP*4.4x3mm*P0.65mm* MSOP*3x3mm*P0.65mm* SSOP*3.9x4.9mm*P0.635mm* LFCSP*2x2mm*P0.5mm* *SIP* SOIC*5.3x6.2mm*P1.27mm*; Datasheet: http://www.ti.com/lit/ds/symlink/lm4562.pdf
part A pins: 1, 2 -, 3 +
part B pins: 5 +, 6 -, 7
part C pins: 4 V-, 8 V+

## LM6142xIx
designator *  value LM6142xIx  Reference: U
ki_keywords: dual opamp rail; ki_description: Dual Operational Amplifiers, 17MHz, DIP-8/SOIC-8; ki_fp_filters: SOIC*3.9x4.9mm*P1.27mm* DIP*W7.62mm*; Datasheet: https://www.ti.com/lit/ds/symlink/lm6142.pdf
part A pins: 1, 2 -, 3 +
part B pins: 5 +, 6 -, 7
part C pins: 4 V-, 8 V+

## LM6144xIx
designator *  value LM6144xIx  Reference: U
ki_keywords: quad opamp rail; ki_description: Low-Power, Quad-Operational Amplifiers, 17MHz, DIP-14/SOIC-14; ki_fp_filters: SOIC*3.9x8.7mm*P1.27mm* DIP*W7.62mm*; Datasheet: https://www.ti.com/lit/ds/symlink/lm6142.pdf
part A pins: 1, 2 -, 3 +
part B pins: 5 +, 6 -, 7
part C pins: 8, 9 -, 10 +
part D pins: 12 +, 13 -, 14
part E pins: 4 V+, 11 V-

## LM6171D
designator *  value LM6171D  Reference: U
ki_keywords: single opamp; ki_description: High Speed Low Power Low Distortion Voltage Feedback Amplifier, SOIC-8; ki_fp_filters: SOIC*3.9x4.9mm*P1.27mm*; Footprint: Package_SO:SOIC-8_3.9x4.9mm_P1.27mm; Datasheet: http://www.ti.com/lit/ds/symlink/lm6171.pdf
pins: 1 NC hidden, 2 -, 3 +, 4 V-, 5 NC hidden, 6, 7 V+, 8 NC hidden

## LM6171xxN
designator *  value LM6171xxN  Reference: U
ki_keywords: single opamp; ki_description: Single High Speed Low Power Low Distortion Voltage Feedback Amplifier, DIP-8; ki_fp_filters: DIP*W7.62mm*; Footprint: Package_DIP:DIP-8_W7.62mm; Datasheet: http://www.ti.com/lit/ds/symlink/lm6171.pdf
pins: 1 NC hidden, 2 -, 3 +, 4 V-, 5 NC hidden, 6, 7 V+, 8 NC hidden

## LM6172
designator *  value LM6172  Reference: U
ki_keywords: dual opamp; ki_description: Dual High Speed, Low Power, Low Distortion, Voltage Feedback Amplifiers, DIP-8/SOIC-8; ki_fp_filters: SOIC*3.9x4.9mm*P1.27mm* DIP*W7.62mm* TO*99* OnSemi*Micro8* TSSOP*3x3mm*P0.65mm* TSSOP*4.4x3mm*P0.65mm* MSOP*3x3mm*P0.65mm* SSOP*3.9x4.9mm*P0.635mm* LFCSP*2x2mm*P0.5mm* *SIP* SOIC*5.3x6.2mm*P1.27mm*; Datasheet: http://www.ti.com/lit/ds/symlink/lm6172.pdf
part A pins: 1, 2 -, 3 +
part B pins: 5 +, 6 -, 7
part C pins: 4 V-, 8 V+

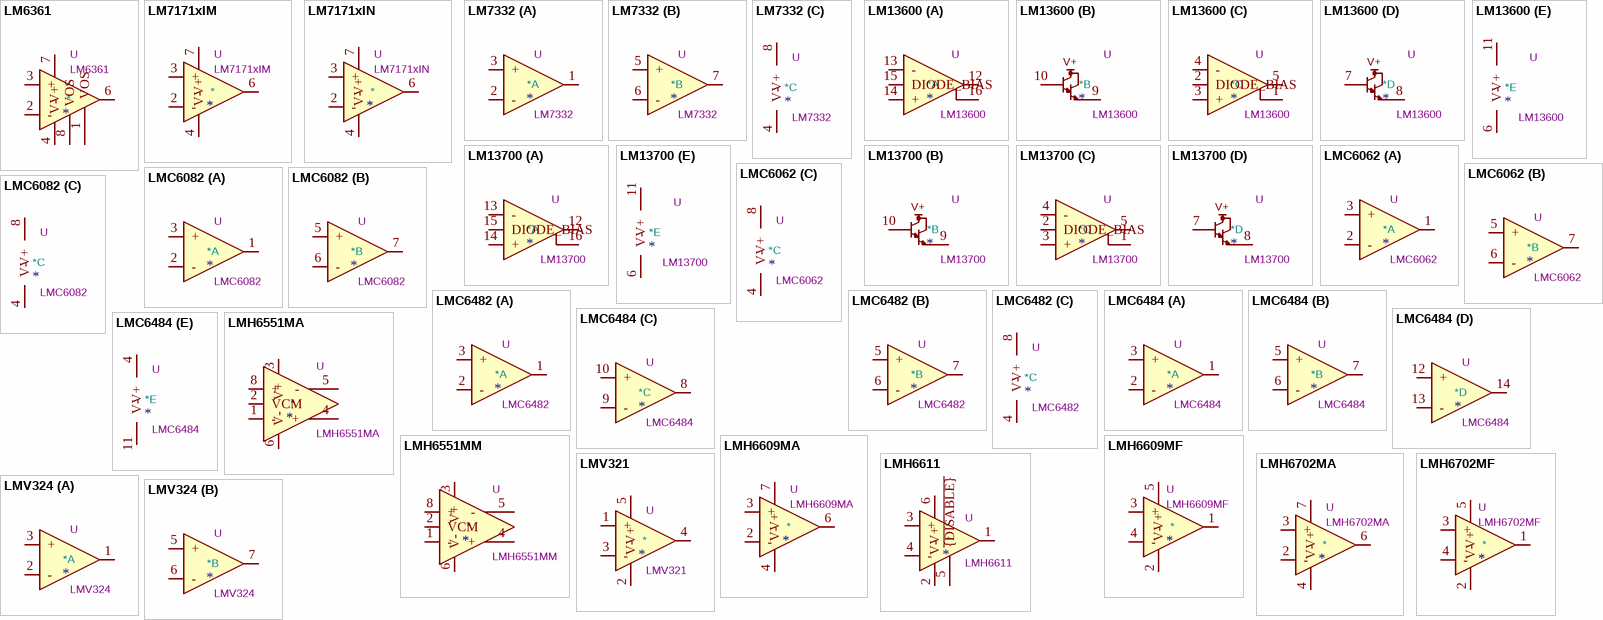
[diagram p4: symbols LM6361 to LMV324]

## LM6361
designator *  value LM6361  Reference: U
ki_keywords: single opamp; ki_description: Single High Speed Operational Amplifier, DIP-8/SOIC-8; ki_fp_filters: SOIC*3.9x4.9mm*P1.27mm* DIP*W7.62mm*; Datasheet: http://www.ti.com/lit/ds/symlink/lm6161.pdf
pins: 1 VOS, 2 -, 3 +, 4 V-, 5 NC hidden, 6, 7 V+, 8 VOS

## LM7171xIM
designator *  value LM7171xIM  Reference: U
ki_keywords: single opamp; ki_description: Single Very High Speed High Output Current Voltage Feedback Amplifier, SOIC-8; ki_fp_filters: SOIC*3.9x4.9mm*P1.27mm*; Footprint: Package_SO:SOIC-8_3.9x4.9mm_P1.27mm; Datasheet: https://www.ti.com/lit/ds/symlink/lm7171.pdf
pins: 1 NC hidden, 2 -, 3 +, 4 V-, 5 NC hidden, 6, 7 V+, 8 NC hidden

## LM7171xIN
designator *  value LM7171xIN  Reference: U
ki_keywords: single opamp; ki_description: Single Very High Speed High Output Current Voltage Feedback Amplifier, DIP-8; ki_fp_filters: DIP*W7.62mm*; Footprint: Package_DIP:DIP-8_W7.62mm; Datasheet: https://www.ti.com/lit/ds/symlink/lm7171.pdf
pins: 1 NC hidden, 2 -, 3 +, 4 V-, 5 NC hidden, 6, 7 V+, 8 NC hidden

## LM7332
designator *  value LM7332  Reference: U
ki_keywords: dual opamp; ki_description: Dual Rail-to-Rail Input and Output 30-V, Wide Voltage Range, High Output, Operational Amplifier, SOIC-8/SSOP-8; ki_fp_filters: SOIC*3.9x4.9mm*P1.27mm* DIP*W7.62mm* TO*99* OnSemi*Micro8* TSSOP*3x3mm*P0.65mm* TSSOP*4.4x3mm*P0.65mm* MSOP*3x3mm*P0.65mm* SSOP*3.9x4.9mm*P0.635mm* LFCSP*2x2mm*P0.5mm* *SIP* SOIC*5.3x6.2mm*P1.27mm*; Datasheet: http://www.ti.com/lit/ds/symlink/lm7332.pdf
part A pins: 1, 2 -, 3 +
part B pins: 5 +, 6 -, 7
part C pins: 4 V-, 8 V+

## LM13600
designator *  value LM13600  Reference: U
ki_keywords: operational transconductance amplifier OTA; ki_description: Dual Operational Transconductance Amplifiers with Linearizing Diodes and Buffers, DIP-16/SOIC-16; ki_fp_filters: SOIC*3.9x9.9mm*P1.27mm* DIP*W7.62mm*; Datasheet: http://pdf.datasheetcatalog.com/datasheet/nationalsemiconductor/DS007980.PDF
part A pins: 12, 13 -, 14 +, 15 DIODE_BIAS, 16
part B pins: 9, 10
part C pins: 1, 2 DIODE_BIAS, 3 +, 4 -, 5
part D pins: 7, 8
part E pins: 6 V-, 11 V+

## LM13700
designator *  value LM13700  Reference: U
ki_keywords: operational transconductance amplifier OTA; ki_description: Dual Operational Transconductance Amplifiers with Linearizing Diodes and Buffers, DIP-16/SOIC-16; ki_fp_filters: SOIC*3.9x9.9mm*P1.27mm* DIP*W7.62mm*; Datasheet: http://www.ti.com/lit/ds/symlink/lm13700.pdf
part A pins: 12, 13 -, 14 +, 15 DIODE_BIAS, 16
part B pins: 9, 10
part C pins: 1, 2 DIODE_BIAS, 3 +, 4 -, 5
part D pins: 7, 8
part E pins: 6 V-, 11 V+

## LMC6062
designator *  value LMC6062  Reference: U
ki_keywords: dual opamp; ki_description: Precision CMOS Dual Micropower Operational Amplifier, DIP-8/SOIC-8; ki_fp_filters: SOIC*3.9x4.9mm*P1.27mm* DIP*W7.62mm* TO*99* OnSemi*Micro8* TSSOP*3x3mm*P0.65mm* TSSOP*4.4x3mm*P0.65mm* MSOP*3x3mm*P0.65mm* SSOP*3.9x4.9mm*P0.635mm* LFCSP*2x2mm*P0.5mm* *SIP* SOIC*5.3x6.2mm*P1.27mm*; Datasheet: http://www.ti.com/lit/ds/symlink/lmc6062.pdf
part A pins: 1, 2 -, 3 +
part B pins: 5 +, 6 -, 7
part C pins: 4 V-, 8 V+

## LMC6082
designator *  value LMC6082  Reference: U
ki_keywords: dual opamp; ki_description: Precision CMOS Dual Operational Amplifier, DIP-8/SOIC-8; ki_fp_filters: SOIC*3.9x4.9mm*P1.27mm* DIP*W7.62mm* TO*99* OnSemi*Micro8* TSSOP*3x3mm*P0.65mm* TSSOP*4.4x3mm*P0.65mm* MSOP*3x3mm*P0.65mm* SSOP*3.9x4.9mm*P0.635mm* LFCSP*2x2mm*P0.5mm* *SIP* SOIC*5.3x6.2mm*P1.27mm*; Datasheet: http://www.ti.com/lit/ds/symlink/lmc6082.pdf
part A pins: 1, 2 -, 3 +
part B pins: 5 +, 6 -, 7
part C pins: 4 V-, 8 V+

## LMC6482
designator *  value LMC6482  Reference: U
ki_keywords: dual opamp; ki_description: Dual CMOS Rail-to-Rail Input and Output Operational Amplifier, DIP-8/SOIC-8, SSOP-8; ki_fp_filters: SOIC*3.9x4.9mm*P1.27mm* DIP*W7.62mm* TO*99* OnSemi*Micro8* TSSOP*3x3mm*P0.65mm* TSSOP*4.4x3mm*P0.65mm* MSOP*3x3mm*P0.65mm* SSOP*3.9x4.9mm*P0.635mm* LFCSP*2x2mm*P0.5mm* *SIP* SOIC*5.3x6.2mm*P1.27mm*; Datasheet: http://www.ti.com/lit/ds/symlink/lmc6482.pdf
part A pins: 1, 2 -, 3 +
part B pins: 5 +, 6 -, 7
part C pins: 4 V-, 8 V+

## LMC6484
designator *  value LMC6484  Reference: U
ki_keywords: quad opamp; ki_description: Quad CMOS Rail-to-Rail Input and Output Operational Amplifier, DIP-14/SOIC-14; ki_fp_filters: SOIC*3.9x8.7mm*P1.27mm* DIP*W7.62mm* TSSOP*4.4x5mm*P0.65mm* SSOP*5.3x6.2mm*P0.65mm* MSOP*3x3mm*P0.5mm*; Datasheet: http://www.ti.com/lit/ds/symlink/lmc6484.pdf
part A pins: 1, 2 -, 3 +
part B pins: 5 +, 6 -, 7
part C pins: 8, 9 -, 10 +
part D pins: 12 +, 13 -, 14
part E pins: 4 V+, 11 V-

## LMH6551MA
designator *  value LMH6551MA  Reference: U
ki_keywords: differential opamp operational amplifier; ki_description: Differential, High-Speed, Op Amp, SOIC-8; ki_fp_filters: SOIC*3.9x4.9mm*P1.27mm*; Footprint: Package_SO:SOIC-8_3.9x4.9mm_P1.27mm; Datasheet: http://www.ti.com/lit/ds/symlink/lmh6551.pdf
pins: 1 -, 2 VCM, 3 V+, 4 +, 5 -, 6 V-, 7 NC hidden, 8 +

## LMH6551MM
designator *  value LMH6551MM  Reference: U
ki_keywords: differential opamp operational amplifier; ki_description: Differential, High-Speed, Op Amp, VSSOP-8; ki_fp_filters: VSSOP*3.0x3.0mm*P0.65mm*; Footprint: Package_SO:VSSOP-8_3.0x3.0mm_P0.65mm; Datasheet: http://www.ti.com/lit/ds/symlink/lmh6551.pdf
pins: 1 -, 2 VCM, 3 V+, 4 +, 5 -, 6 V-, 7 NC hidden, 8 +

## LMH6609MA
designator *  value LMH6609MA  Reference: U
ki_keywords: opamp single wideband unity-gain stable; ki_description: 900MHz Voltage Feedback Op Amp, SOIC-8; ki_fp_filters: SOIC*3.9x4.9mm*P1.27mm*; Footprint: Package_SO:SOIC-8_3.9x4.9mm_P1.27mm; Datasheet: http://www.ti.com/lit/ds/symlink/lmh6609.pdf
pins: 1 NC hidden, 2 -, 3 +, 4 V-, 5 NC hidden, 6, 7 V+, 8 NC hidden

## LMH6609MF
designator *  value LMH6609MF  Reference: U
ki_keywords: opamp single wideband unity-gain stable; ki_description: 900MHz Voltage Feedback Op Amp, SOT-23-5; ki_fp_filters: SOT?23*; Footprint: Package_TO_SOT_SMD:SOT-23-5; Datasheet: http://www.ti.com/lit/ds/symlink/lmh6609.pdf
pins: 1, 2 V-, 3 +, 4 -, 5 V+

## LMH6611
designator *  value LMH6611  Reference: U
ki_keywords: opamp operational amplifier single; ki_description: Single Supply, 345 MHz, Rail-to-Rail Output, Amplifier, TSOT-23-6; ki_fp_filters: TSOT*23*; Footprint: Package_TO_SOT_SMD:TSOT-23-6; Datasheet: http://www.ti.com/lit/ds/symlink/lmh6612.pdf
pins: 1, 2 V-, 3 +, 4 -, 5 ~{{DISABLE}}, 6 V+

## LMH6702MA
designator *  value LMH6702MA  Reference: U
ki_keywords: opamp single low distortion wideband; ki_description: 1.7 GHz Ultra-Low Distortion Wideband Op Amp, SOIC-8; ki_fp_filters: SOIC*3.9x4.9mm*P1.27mm*; Footprint: Package_SO:SOIC-8_3.9x4.9mm_P1.27mm; Datasheet: http://www.ti.com/lit/ds/symlink/lmh6702.pdf
pins: 1 NC hidden, 2 -, 3 +, 4 V-, 5 NC hidden, 6, 7 V+, 8 NC hidden

## LMH6702MF
designator *  value LMH6702MF  Reference: U
ki_keywords: opamp single low distortion wideband; ki_description: 1.7 GHz Ultra-Low Distortion Wideband Op Amp, SOT-23-5; ki_fp_filters: SOT?23*; Footprint: Package_TO_SOT_SMD:SOT-23-5; Datasheet: http://www.ti.com/lit/ds/symlink/lmh6702.pdf
pins: 1, 2 V-, 3 +, 4 -, 5 V+

## LMV321
designator *  value LMV321  Reference: U
ki_keywords: single opamp; ki_description: Low-Voltage Rail-to-Rail Output Operational Amplifiers, SOT-23-5/SC-70-5; ki_fp_filters: SOT?23* *SC*70*; Datasheet: http://www.ti.com/lit/ds/symlink/lmv324.pdf
pins: 1 +, 2 V-, 3 -, 4, 5 V+

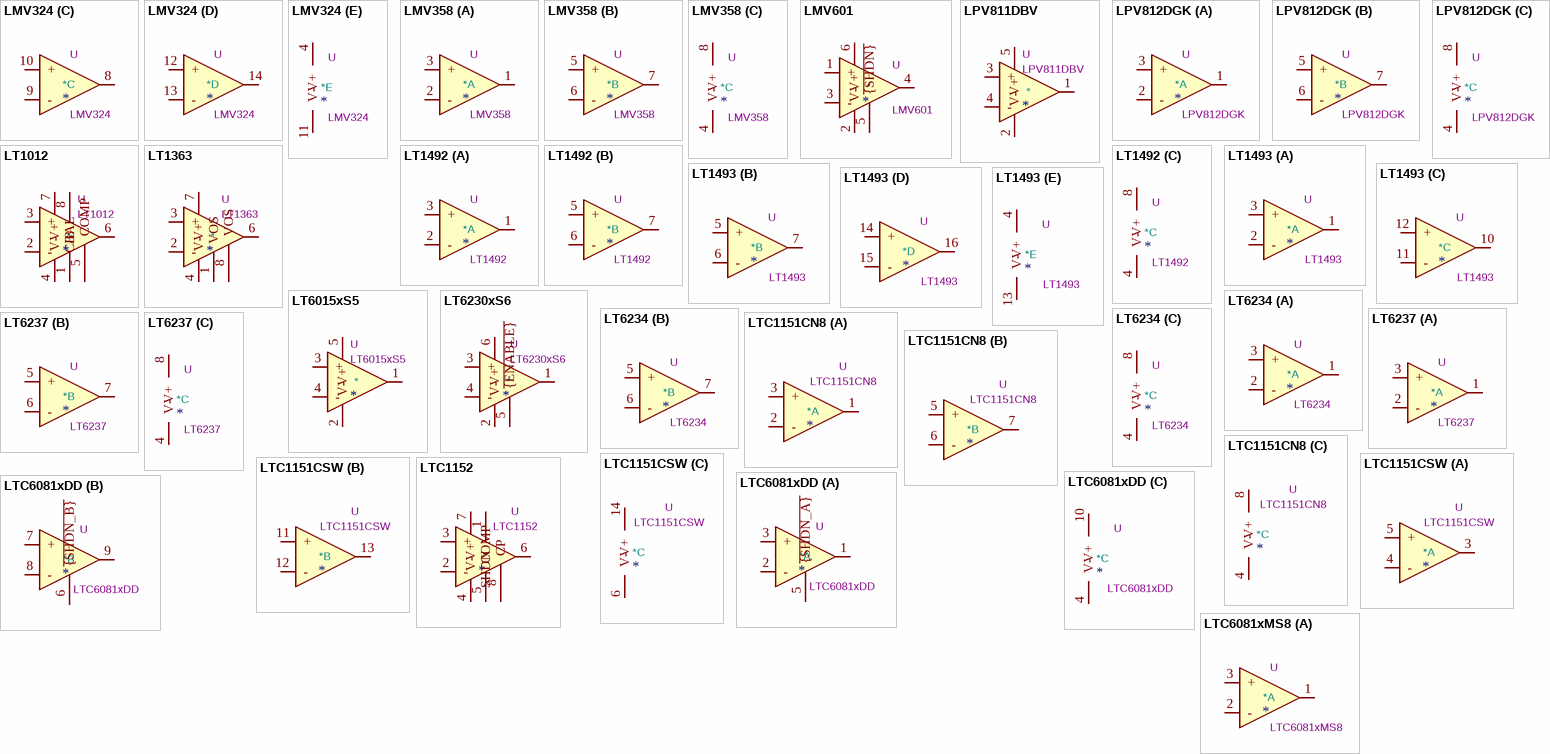
[diagram p5: symbols LMV324 to LTC6081xMS8]

## LMV324
designator *  value LMV324  Reference: U
ki_keywords: quad opamp; ki_description: Quad Low-Voltage Rail-to-Rail Output Operational Amplifier, SOIC-14/SSOP-14; ki_fp_filters: SOIC*3.9x8.7mm*P1.27mm* DIP*W7.62mm* TSSOP*4.4x5mm*P0.65mm* SSOP*5.3x6.2mm*P0.65mm* MSOP*3x3mm*P0.5mm*; Datasheet: http://www.ti.com/lit/ds/symlink/lmv324.pdf
part A pins: 1, 2 -, 3 +
part B pins: 5 +, 6 -, 7
part C pins: 8, 9 -, 10 +
part D pins: 12 +, 13 -, 14
part E pins: 4 V+, 11 V-

## LMV358
designator *  value LMV358  Reference: U
ki_keywords: single opamp; ki_description: Dual Low-Voltage Rail-to-Rail Output Operational Amplifiers, SOIC-8/SSOP-8; ki_fp_filters: SOIC*3.9x4.9mm*P1.27mm* DIP*W7.62mm* TO*99* OnSemi*Micro8* TSSOP*3x3mm*P0.65mm* TSSOP*4.4x3mm*P0.65mm* MSOP*3x3mm*P0.65mm* SSOP*3.9x4.9mm*P0.635mm* LFCSP*2x2mm*P0.5mm* *SIP* SOIC*5.3x6.2mm*P1.27mm*; Datasheet: http://www.ti.com/lit/ds/symlink/lmv324.pdf
part A pins: 1, 2 -, 3 +
part B pins: 5 +, 6 -, 7
part C pins: 4 V-, 8 V+

## LMV601
designator *  value LMV601  Reference: U
ki_keywords: single opamp; ki_description: 1MHz, Low-Power, General-Purpose, 2.7V Operational Amplifiers, SC-70-6; ki_fp_filters: *SC*70*; Footprint: Package_TO_SOT_SMD:SOT-363_SC-70-6; Datasheet: http://www.ti.com/lit/ds/symlink/lmv601.pdf
pins: 1 +, 2 V-, 3 -, 4, 5 ~{{SHDN}}, 6 V+

## LPV811DBV
designator *  value LPV811DBV  Reference: U
ki_keywords: single opamp low-power rail-to-rail; ki_description: Single operational amplifier, 8kHz GBW, 425 nA/channel quiescent, 100 fA input bias, 300 uV offset max, 1 uV/C, SOT-23-5; ki_fp_filters: SOT?23*; Footprint: Package_TO_SOT_SMD:SOT-23-5; Datasheet: https://www.ti.com/lit/ds/symlink/lpv812.pdf
pins: 1, 2 V-, 3 +, 4 -, 5 V+

## LPV812DGK
designator *  value LPV812DGK  Reference: U
ki_keywords: dual opamp low-power rail-to-rail; ki_description: Dual operational amplifier, 8kHz GBW, 425 nA/channel quiescent, 100 fA input bias, 300 uV offset max, 1 uV/C, VSSOP-8; ki_fp_filters: VSSOP*3.0x3.0mm*P0.65mm*; Footprint: Package_SO:VSSOP-8_3.0x3.0mm_P0.65mm; Datasheet: https://www.ti.com/lit/ds/symlink/lpv812.pdf
part A pins: 1, 2 -, 3 +
part B pins: 5 +, 6 -, 7
part C pins: 4 V-, 8 V+

## LT1012
designator *  value LT1012  Reference: U
ki_keywords: single opamp; ki_description: Single Picoamp Input Current, Microvolt Offset, Low Noise Op Amp, DIP-8/SOIC-8/TO-5-8; ki_fp_filters: DIP*W7.62mm* SOIC*3.9x4.9mm*P1.27mm* TO?5*; Datasheet: https://www.analog.com/media/en/technical-documentation/data-sheets/lt1012.pdf
pins: 1 BAL, 2 -, 3 +, 4 V-, 5 COMP, 6, 7 V+, 8 C/B

## LT1363
designator *  value LT1363  Reference: U
ki_keywords: single opamp; ki_description: 70MHz, 1000V/µs Operational Amplifier, DIP-8/SOIC-8; ki_fp_filters: DIP*W7.62mm* SOIC*3.9x4.9mm*P1.27mm* TO*99*; Datasheet: https://www.analog.com/media/en/technical-documentation/data-sheets/1363fa.pdf
pins: 1 VOS, 2 -, 3 +, 4 V-, 5 NC hidden, 6, 7 V+, 8 VOS

## LT1492
designator *  value LT1492  Reference: U
ki_keywords: dual opamp; ki_description: 5MHz, 3V/µs, Low Power, Single Supply, Dual Precision Op Amps, DIP-8/SOIC-8; ki_fp_filters: SOIC*3.9x4.9mm*P1.27mm* DIP*W7.62mm* TO*99* OnSemi*Micro8* TSSOP*3x3mm*P0.65mm* TSSOP*4.4x3mm*P0.65mm* MSOP*3x3mm*P0.65mm* SSOP*3.9x4.9mm*P0.635mm* LFCSP*2x2mm*P0.5mm* *SIP* SOIC*5.3x6.2mm*P1.27mm*; Datasheet: https://www.analog.com/media/en/technical-documentation/data-sheets/14923f.pdf
part A pins: 1, 2 -, 3 +
part B pins: 5 +, 6 -, 7
part C pins: 4 V-, 8 V+

## LT1493
designator *  value LT1493  Reference: U
ki_keywords: quad opamp; ki_description: 5MHz, 3V/µs, Low Power, Single Supply, Quad Precision Op Amps, SOIC-16; ki_fp_filters: SSOP*3.9x4.9mm*P0.635mm* SOIC*3.9x9.9mm*P1.27mm* QSOP*3.9x4.9mm*P0.635mm*; Datasheet: https://www.analog.com/media/en/technical-documentation/data-sheets/14923f.pdf
part A pins: 1, 2 -, 3 +, 8 NC hidden, 9 NC hidden
part B pins: 5 +, 6 -, 7
part C pins: 10, 11 -, 12 +
part D pins: 14 +, 15 -, 16
part E pins: 4 V+, 13 V-

## LT6015xS5
designator *  value LT6015xS5  Reference: U
ki_keywords: single opamp; ki_description: 3.2MHz, 0.8V/us, Low Power, Over-The-Top Precision Op Amp, SOT-23-5; ki_fp_filters: SOT?23*; Footprint: Package_TO_SOT_SMD:SOT-23-5; Datasheet: https://www.analog.com/media/en/technical-documentation/data-sheets/601567ff.pdf
pins: 1, 2 V-, 3 +, 4 -, 5 V+

## LT6230xS6
designator *  value LT6230xS6  Reference: U
ki_keywords: opamp operational amplifier single; ki_description: 215 MHz, Rail-to-Rail Output, Amplifier, TSOT-23-6; ki_fp_filters: TSOT*23*; Footprint: Package_TO_SOT_SMD:TSOT-23-6; Datasheet: https://www.analog.com/media/en/technical-documentation/data-sheets/623012fc.pdf
pins: 1, 2 V-, 3 +, 4 -, 5 ~{{ENABLE}}, 6 V+

## LT6234
designator *  value LT6234  Reference: U
ki_keywords: dual opamp; ki_description: Dual 60MHz, Rail-to-Rail Output, 1.9nV/√Hz, 1.2mA, Operational Amplifier, SOIC-8; ki_fp_filters: SOIC*3.9x4.9mm*P1.27mm* DIP*W7.62mm* TO*99* OnSemi*Micro8* TSSOP*3x3mm*P0.65mm* TSSOP*4.4x3mm*P0.65mm* MSOP*3x3mm*P0.65mm* SSOP*3.9x4.9mm*P0.635mm* LFCSP*2x2mm*P0.5mm* *SIP* SOIC*5.3x6.2mm*P1.27mm*; Datasheet: https://www.analog.com/media/en/technical-documentation/data-sheets/623345fc.pdf
part A pins: 1, 2 -, 3 +
part B pins: 5 +, 6 -, 7
part C pins: 4 V-, 8 V+

## LT6237
designator *  value LT6237  Reference: U
ki_keywords: dual opamp; ki_description: Dual 215MHz, Rail-to-Rail Output, 1.1nV/√Hz, 3.5mA, Operational Amplifier, MSOP-8/DFN-8; ki_fp_filters: SOIC*3.9x4.9mm*P1.27mm* DIP*W7.62mm* TO*99* OnSemi*Micro8* TSSOP*3x3mm*P0.65mm* TSSOP*4.4x3mm*P0.65mm* MSOP*3x3mm*P0.65mm* SSOP*3.9x4.9mm*P0.635mm* LFCSP*2x2mm*P0.5mm* *SIP* SOIC*5.3x6.2mm*P1.27mm*; Datasheet: https://www.analog.com/media/en/technical-documentation/data-sheets/623637fb.pdf
part A pins: 1, 2 -, 3 +
part B pins: 5 +, 6 -, 7
part C pins: 4 V-, 8 V+

## LTC1151CN8
designator *  value LTC1151CN8  Reference: U
ki_keywords: dual opamp; ki_description: Dual ±15V, Zero-Drift, Operational Amplifier, DIP-8; ki_fp_filters: DIP*W7.62mm*; Footprint: Package_DIP:DIP-8_W7.62mm; Datasheet: https://www.analog.com/media/en/technical-documentation/data-sheets/1151fa.pdf
part A pins: 1, 2 -, 3 +
part B pins: 5 +, 6 -, 7
part C pins: 4 V-, 8 V+

## LTC1151CSW
designator *  value LTC1151CSW  Reference: U
ki_keywords: dual opamp; ki_description: Dual ±15V, Zero-Drift, Operational Amplifier, SOIC-16W; ki_fp_filters: SOIC*7.5x10.3mm*P1.27mm*; Footprint: Package_SO:SOIC-16W_7.5x10.3mm_P1.27mm; Datasheet: https://www.analog.com/media/en/technical-documentation/data-sheets/1151fa.pdf
part A pins: 1 NC hidden, 2 NC hidden, 3, 4 -, 5 +, 7 NC hidden, 8 NC hidden
part B pins: 9 NC hidden, 10 NC hidden, 11 +, 12 -, 13, 15 NC hidden, 16 NC hidden
part C pins: 6 V-, 14 V+

## LTC1152
designator *  value LTC1152  Reference: U
ki_keywords: single opamp; ki_description: Rail-to-Rail Input, Rail-to-Rail Output, Zero-Drift Op Amp, DIP-8, SOIC-8; ki_fp_filters: SOIC*3.9x4.9mm*P1.27mm* DIP*W7.62mm*; Datasheet: https://www.analog.com/media/en/technical-documentation/data-sheets/lt1152.pdf
pins: 1 SHDN, 2 -, 3 +, 4 V-, 5 COMP, 6, 7 V+, 8 CP

## LTC6081xDD
designator *  value LTC6081xDD  Reference: U
ki_keywords: dual opamp; ki_description: Precision Dual CMOS Rail-to-Rail Input/Output Amplifiers, DFN-10; ki_fp_filters: DFN*3x3mm*P0.5mm*; Footprint: Package_DFN_QFN:DFN-10-1EP_3x3mm_P0.5mm_EP1.55x2.48mm; Datasheet: https://www.analog.com/media/en/technical-documentation/data-sheets/60812fd.pdf
part A pins: 1, 2 -, 3 +, 5 ~{{SHDN_A}}
part B pins: 6 ~{{SHDN_B}}, 7 +, 8 -, 9
part C pins: 4 V-, 10 V+, 11 V- hidden

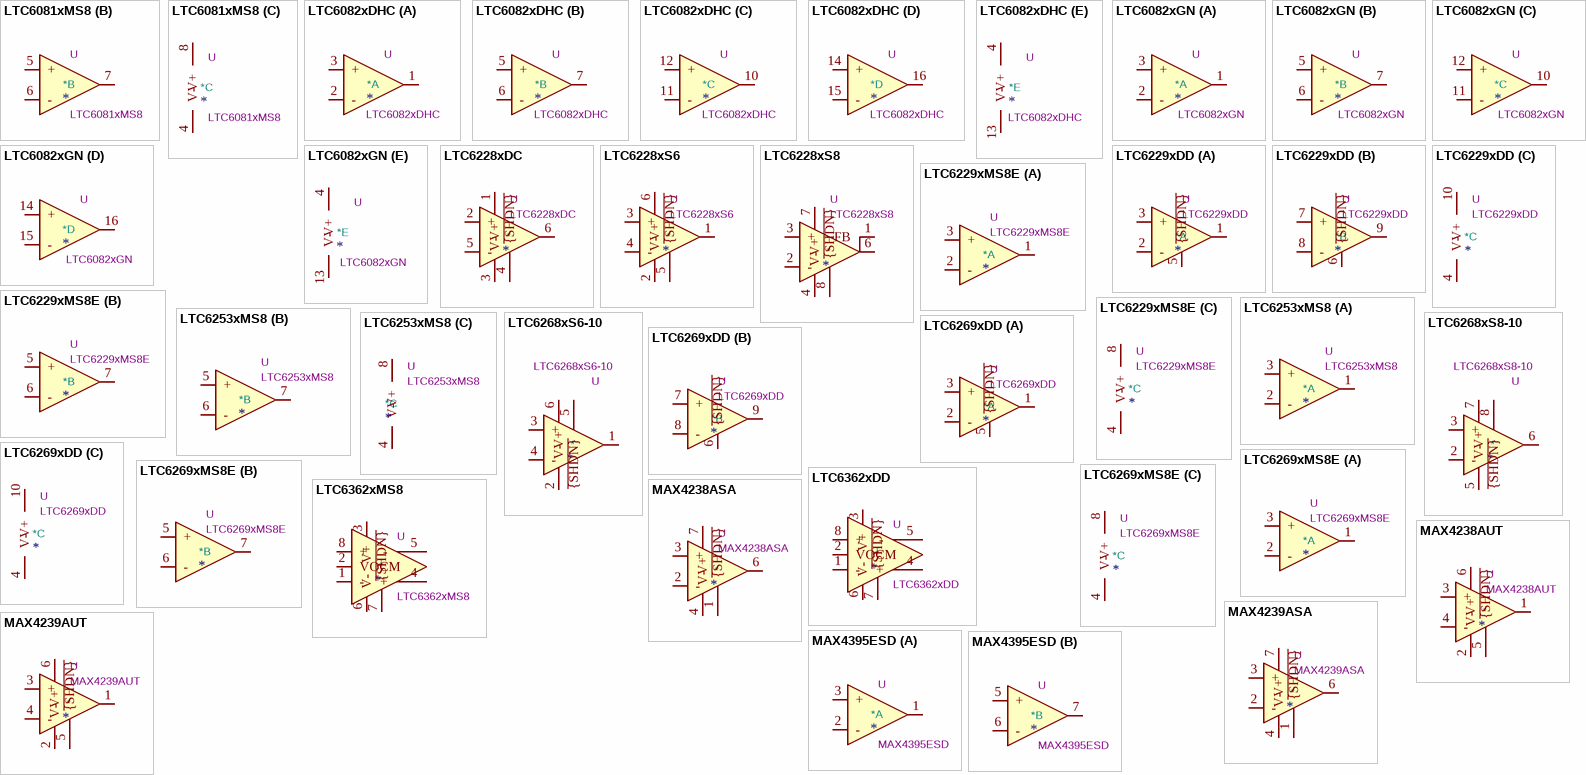
[diagram p6: symbols LTC6081xMS8 to MAX4395ESD]

## LTC6081xMS8
designator *  value LTC6081xMS8  Reference: U
ki_keywords: dual opamp; ki_description: Precision Dual CMOS Rail-to-Rail Input/Output Amplifiers, MSOP-8; ki_fp_filters: SOIC*3.9x4.9mm*P1.27mm* DIP*W7.62mm* TO*99* OnSemi*Micro8* TSSOP*3x3mm*P0.65mm* TSSOP*4.4x3mm*P0.65mm* MSOP*3x3mm*P0.65mm* SSOP*3.9x4.9mm*P0.635mm* LFCSP*2x2mm*P0.5mm* *SIP* SOIC*5.3x6.2mm*P1.27mm*; Datasheet: https://www.analog.com/media/en/technical-documentation/data-sheets/60812fd.pdf
part A pins: 1, 2 -, 3 +
part B pins: 5 +, 6 -, 7
part C pins: 4 V-, 8 V+

## LTC6082xDHC
designator *  value LTC6082xDHC  Reference: U
ki_keywords: quad opamp; ki_description: Precision Quad CMOS Rail-to-Rail Input/Output Amplifiers, DFN-16; ki_fp_filters: DFN*3x5mm*P0.5mm*; Footprint: Package_DFN_QFN:DFN-16-1EP_3x5mm_P0.5mm_EP1.66x4.4mm; Datasheet: https://www.analog.com/media/en/technical-documentation/data-sheets/60812fd.pdf
part A pins: 1, 2 -, 3 +, 8 NC hidden, 9 NC hidden
part B pins: 5 +, 6 -, 7
part C pins: 10, 11 -, 12 +
part D pins: 14 +, 15 -, 16
part E pins: 4 V+, 13 V-, 17 V- hidden

## LTC6082xGN
designator *  value LTC6082xGN  Reference: U
ki_keywords: quad opamp; ki_description: Precision Quad CMOS Rail-to-Rail Input/Output Amplifiers, SSOP-16; ki_fp_filters: SSOP*3.9x4.9mm*P0.635mm* SOIC*3.9x9.9mm*P1.27mm* QSOP*3.9x4.9mm*P0.635mm*; Datasheet: https://www.analog.com/media/en/technical-documentation/data-sheets/60812fd.pdf
part A pins: 1, 2 -, 3 +, 8 NC hidden, 9 NC hidden
part B pins: 5 +, 6 -, 7
part C pins: 10, 11 -, 12 +
part D pins: 14 +, 15 -, 16
part E pins: 4 V+, 13 V-